# Altium footprint library Antene_footoprint.PcbLib: 1 footprints
Each footprint in its own frame and in the unit in brackets; x right, y up, seen from the top. Pads: shape width x height; smd on the part's side, far side on the other; paste and mask are expansions set on the pad; w line width, h text height; cw(c..) or ccw(c..) is an arc to the next point about the centre after c.
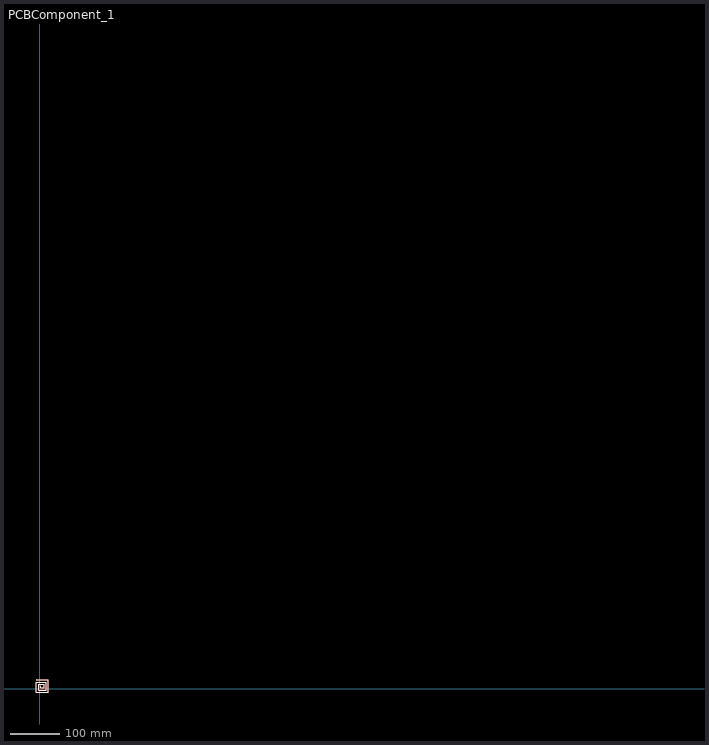
[diagram p0: the footprint, top view; thin cyan lines are the x and y axes]

## PCBComponent_1 [mil]
pads (2):
  rect 60x60 smd: AC0(-285,710) AC1(60,210)
Top Layer:
  lines w20: -275,710 665,710 665,-275 -275,-275 -275,530 500,530 500,-105 -105,-105 ; -110,-105 -110,350 340,350 340,65 70,65 70,210
Top Overlay:
  lines w40: -275,705 665,705 665,-280 -275,-280 -275,525 500,525 500,-110 -105,-110 ; -110,-110 -110,345 340,345 340,60 70,60 70,205
Top Solder:
  lines w20: 49715,50710 50655,50710 50655,49725 49715,49725 49715,50530 50490,50530 50490,49895 49885,49895 ; 49880,49895 49880,50350 50330,50350 50330,50065 50060,50065 50060,50210